# Altium schematic symbol library crytal 32768.SchLib: 1 symbol
Pins are listed as number, name and electrical type; pins without a type are passive.

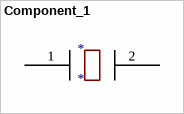
[diagram p0: symbol Component_1]

## Component_1
designator *
footprint CAPM3216X18N (Molded Capacitor, 2-Leads, Body 3.25x1.55mm, IPC Medium Density)
pins: 1, 2